# Altium footprint library RES_ERJB1CFR015U.PcbLib: 1 footprints
Each footprint in its own frame and in the unit in brackets; x right, y up, seen from the top. Pads: shape width x height; smd on the part's side, far side on the other; paste and mask are expansions set on the pad; w line width, h text height; cw(c..) or ccw(c..) is an arc to the next point about the centre after c.
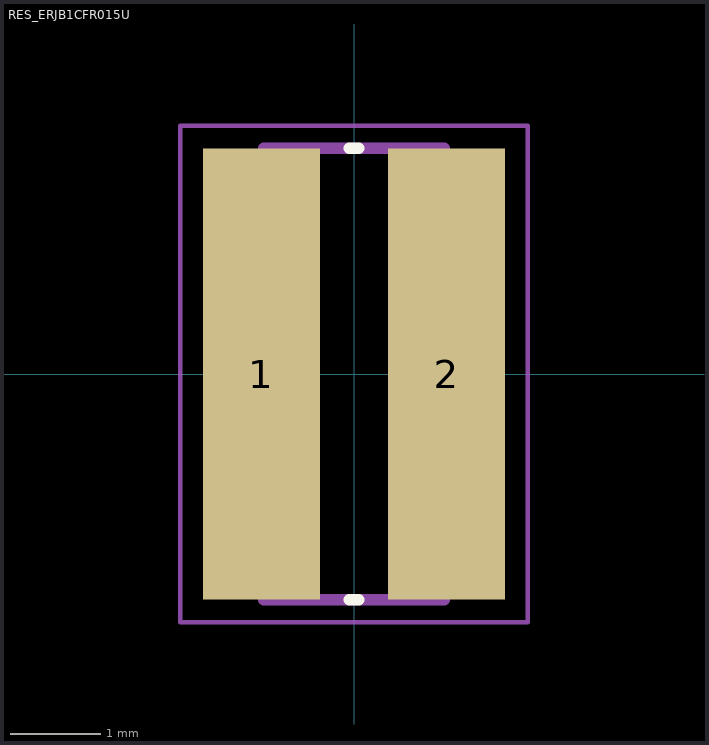
[diagram p0: the footprint, top view; thin cyan lines are the x and y axes]

## RES_ERJB1CFR015U [mm]
pads (2):
  rect 1.3x5 smd: 1(-1.025,0) 2(1.025,0)
Top Overlay:
  lines w0.127: -0.055,-2.5 0.055,-2.5 ; -0.055,2.5 0.055,2.5
Mechanical 13:
  lines w0.127: -1,-2.5 1,-2.5 1,2.5 -1,2.5 -1,-2.5
Mechanical 15:
  lines w0.05: -1.925,-2.75 1.925,-2.75 1.925,2.75 -1.925,2.75 -1.925,-2.75
3D body "ERJB1CFR015U.STEP": height 0.55, standoff 0, extent -1.25,-2.5 1.25,2.5